# EAGLE library part MAX8934D (library JCM)
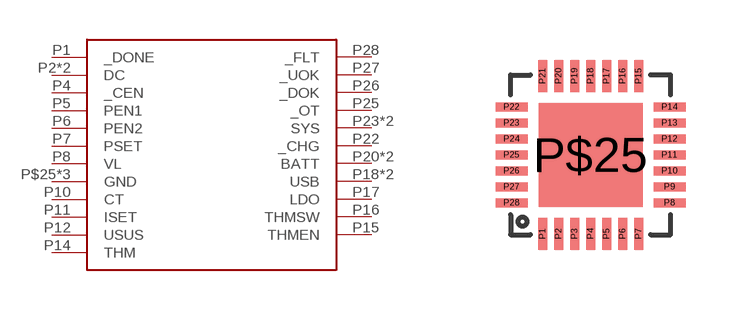
[diagram p8: symbol with the pads of QFN-28-THIN; footprint QFN-28-THIN]

Designator prefix -

## MAX8934D  [QFN-28-THIN]
P1  _DONE
P2  DC
P3  DC
P4  _CEN
P5  PEN1
P6  PEN2
P7  PSET
P8  VL
P9  GND
P10  CT
P11  ISET
P12  USUS
P13  GND
P14  THM
P15  THMEN
P16  THMSW
P17  LDO
P18  USB
P19  USB
P20  BATT
P21  BATT
P22  _CHG
P23  SYS
P24  SYS
P25  _OT
P26  _DOK
P27  _UOK
P28  _FLT
P$25  GND

## Footprint QFN-28-THIN (pad centres in mm)
smd 0.225 x 0.8: P1 -1.2,-1.975; P2 -0.8,-1.975; P3 -0.4,-1.975; P4 0,-1.975; P5 0.4,-1.975; P6 0.8,-1.975; P7 1.2,-1.975; P15 1.2,1.975; P16 0.8,1.975; P17 0.4,1.975; P18 0,1.975; P19 -0.4,1.975; P20 -0.8,1.975; P21 -1.2,1.975
smd 0.8 x 0.225: P8 1.975,-1.2; P9 1.975,-0.8; P10 1.975,-0.4; P11 1.975,0; P12 1.975,0.4; P13 1.975,0.8; P14 1.975,1.2; P22 -1.975,1.2; P23 -1.975,0.8; P24 -1.975,0.4; P25 -1.975,0; P26 -1.975,-0.4; P27 -1.975,-0.8; P28 -1.975,-1.2
smd 2.6 x 2.6: P$25 0,0